# Altium footprint library TE_CONN_1827253.PcbLib: 1 footprints
Each footprint in its own frame and in the unit in brackets; x right, y up, seen from the top. Pads: shape width x height; smd on the part's side, far side on the other; paste and mask are expansions set on the pad; w line width, h text height; cw(c..) or ccw(c..) is an arc to the next point about the centre after c.
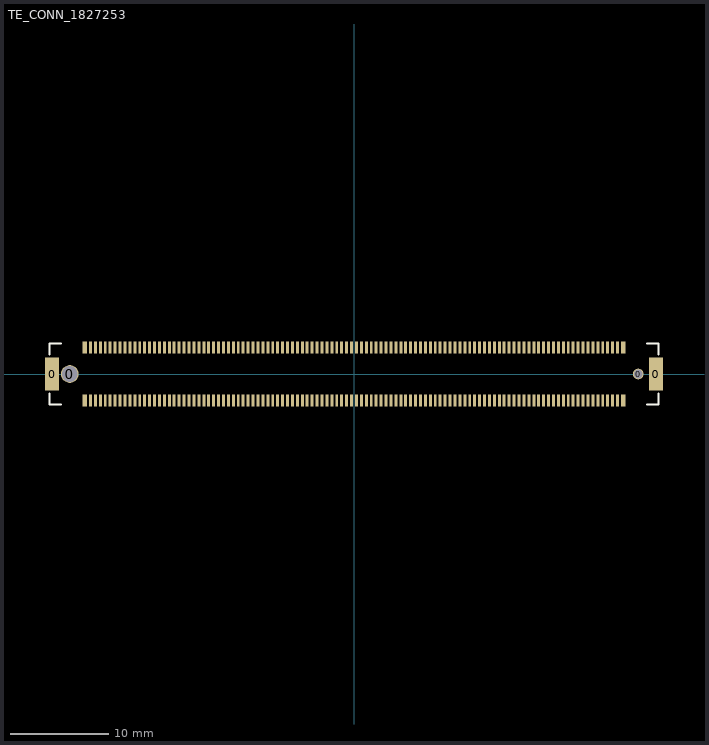
[diagram p0: the footprint, top view; thin cyan lines are the x and y axes]

## TE_CONN_1827253 [mm] "COM Express Socket"
pads (224):
  rect 1.45x3.3 smd: 0(-30.65,0) 0(30.65,0)
  round 1.8 hole 1.6: 0(-28.85,0)
  round 1.1 hole 0.9: 0(28.85,0)
  rect 0.45x1.2 smd mask+0.05: A1(27.325,2.7) A110(-27.325,2.7) B1(27.325,-2.7) B110(-27.325,-2.7)
  rect 0.3x1.2 smd mask+0.05: A2(26.75,2.7) A3(26.25,2.7) A4(25.75,2.7) A5(25.25,2.7) A6(24.75,2.7) A7(24.25,2.7) A8(23.75,2.7) A9(23.25,2.7) A10(22.75,2.7) A11(22.25,2.7) A12(21.75,2.7) A13(21.25,2.7) A14(20.75,2.7) A15(20.25,2.7) A16(19.75,2.7) A17(19.25,2.7) A18(18.75,2.7) A19(18.25,2.7) A20(17.75,2.7) A21(17.25,2.7) A22(16.75,2.7) A23(16.25,2.7) A24(15.75,2.7) A25(15.25,2.7) A26(14.75,2.7) A27(14.25,2.7) A28(13.75,2.7) A29(13.25,2.7) A30(12.75,2.7) A31(12.25,2.7) A32(11.75,2.7) A33(11.25,2.7) A34(10.75,2.7) A35(10.25,2.7) A36(9.75,2.7) A37(9.25,2.7) A38(8.75,2.7) A39(8.25,2.7) A40(7.75,2.7) A41(7.25,2.7) A42(6.75,2.7) A43(6.25,2.7) A44(5.75,2.7) A45(5.25,2.7) A46(4.75,2.7) A47(4.25,2.7) A48(3.75,2.7) A49(3.25,2.7) A50(2.75,2.7) A51(2.25,2.7) A52(1.75,2.7) A53(1.25,2.7) A54(0.75,2.7) A55(0.25,2.7) A56(-0.25,2.7) A57(-0.75,2.7) A58(-1.25,2.7) A59(-1.75,2.7) A60(-2.25,2.7) A61(-2.75,2.7) A62(-3.25,2.7) A63(-3.75,2.7) A64(-4.25,2.7) A65(-4.75,2.7) A66(-5.25,2.7) A67(-5.75,2.7) A68(-6.25,2.7) A69(-6.75,2.7) A70(-7.25,2.7) A71(-7.75,2.7) A72(-8.25,2.7) A73(-8.75,2.7) A74(-9.25,2.7) A75(-9.75,2.7) A76(-10.25,2.7) A77(-10.75,2.7) A78(-11.25,2.7) A79(-11.75,2.7) A80(-12.25,2.7) A81(-12.75,2.7) A82(-13.25,2.7) A83(-13.75,2.7) A84(-14.25,2.7) A85(-14.75,2.7) A86(-15.25,2.7) A87(-15.75,2.7) A88(-16.25,2.7) A89(-16.75,2.7) A90(-17.25,2.7) A91(-17.75,2.7) A92(-18.25,2.7) A93(-18.75,2.7) A94(-19.25,2.7) A95(-19.75,2.7) A96(-20.25,2.7) A97(-20.75,2.7) A98(-21.25,2.7) A99(-21.75,2.7) A100(-22.25,2.7) A101(-22.75,2.7) A102(-23.25,2.7) A103(-23.75,2.7) A104(-24.25,2.7) A105(-24.75,2.7) A106(-25.25,2.7) A107(-25.75,2.7) A108(-26.25,2.7) A109(-26.75,2.7) B2(26.75,-2.7) B3(26.25,-2.7) B4(25.75,-2.7) B5(25.25,-2.7) B6(24.75,-2.7) B7(24.25,-2.7) B8(23.75,-2.7) B9(23.25,-2.7) B10(22.75,-2.7) B11(22.25,-2.7) B12(21.75,-2.7) B13(21.25,-2.7) B14(20.75,-2.7) B15(20.25,-2.7) B16(19.75,-2.7) B17(19.25,-2.7) B18(18.75,-2.7) B19(18.25,-2.7) B20(17.75,-2.7) B21(17.25,-2.7) B22(16.75,-2.7) B23(16.25,-2.7) B24(15.75,-2.7) B25(15.25,-2.7) B26(14.75,-2.7) B27(14.25,-2.7) B28(13.75,-2.7) B29(13.25,-2.7) B30(12.75,-2.7) B31(12.25,-2.7) B32(11.75,-2.7) B33(11.25,-2.7) B34(10.75,-2.7) B35(10.25,-2.7) B36(9.75,-2.7) B37(9.25,-2.7) B38(8.75,-2.7) B39(8.25,-2.7) B40(7.75,-2.7) B41(7.25,-2.7) B42(6.75,-2.7) B43(6.25,-2.7) B44(5.75,-2.7) B45(5.25,-2.7) B46(4.75,-2.7) B47(4.25,-2.7) B48(3.75,-2.7) B49(3.25,-2.7) B50(2.75,-2.7) B51(2.25,-2.7) B52(1.75,-2.7) B53(1.25,-2.7) B54(0.75,-2.7) B55(0.25,-2.7) B56(-0.25,-2.7) B57(-0.75,-2.7) B58(-1.25,-2.7) B59(-1.75,-2.7) B60(-2.25,-2.7) B61(-2.75,-2.7) B62(-3.25,-2.7) B63(-3.75,-2.7) B64(-4.25,-2.7) B65(-4.75,-2.7) B66(-5.25,-2.7) B67(-5.75,-2.7) B68(-6.25,-2.7) B69(-6.75,-2.7) B70(-7.25,-2.7) B71(-7.75,-2.7) B72(-8.25,-2.7) B73(-8.75,-2.7) B74(-9.25,-2.7) B75(-9.75,-2.7) B76(-10.25,-2.7) B77(-10.75,-2.7) B78(-11.25,-2.7) B79(-11.75,-2.7) B80(-12.25,-2.7) B81(-12.75,-2.7) B82(-13.25,-2.7) B83(-13.75,-2.7) B84(-14.25,-2.7) B85(-14.75,-2.7) B86(-15.25,-2.7) B87(-15.75,-2.7) B88(-16.25,-2.7) B89(-16.75,-2.7) B90(-17.25,-2.7) B91(-17.75,-2.7) B92(-18.25,-2.7) B93(-18.75,-2.7) B94(-19.25,-2.7) B95(-19.75,-2.7) B96(-20.25,-2.7) B97(-20.75,-2.7) B98(-21.25,-2.7) B99(-21.75,-2.7) B100(-22.25,-2.7) B101(-22.75,-2.7) B102(-23.25,-2.7) B103(-23.75,-2.7) B104(-24.25,-2.7) B105(-24.75,-2.7) B106(-25.25,-2.7) B107(-25.75,-2.7) B108(-26.25,-2.7) B109(-26.75,-2.7)
Top Layer:
  region: -30,1.25
Top Overlay:
  lines w0.2: -30.9,-2 -30.9,-3.1 -29.75,-3.1 ; -30.9,2 -30.9,3.1 -29.75,3.1 ; 29.75,-3.1 30.9,-3.1 30.9,-2 ; 29.75,3.1 30.9,3.1 30.9,2
3D body "c-3-1827253-6-o-3d.stp": height 4.43, standoff -0.62, extent -30.9,-3.1 30.9,3.1